# Altium footprint library USB-C-31-M-12.PcbLib: 1 footprints
Each footprint in its own frame and in the unit in brackets; x right, y up, seen from the top. Pads: shape width x height; smd on the part's side, far side on the other; paste and mask are expansions set on the pad; w line width, h text height; cw(c..) or ccw(c..) is an arc to the next point about the centre after c.
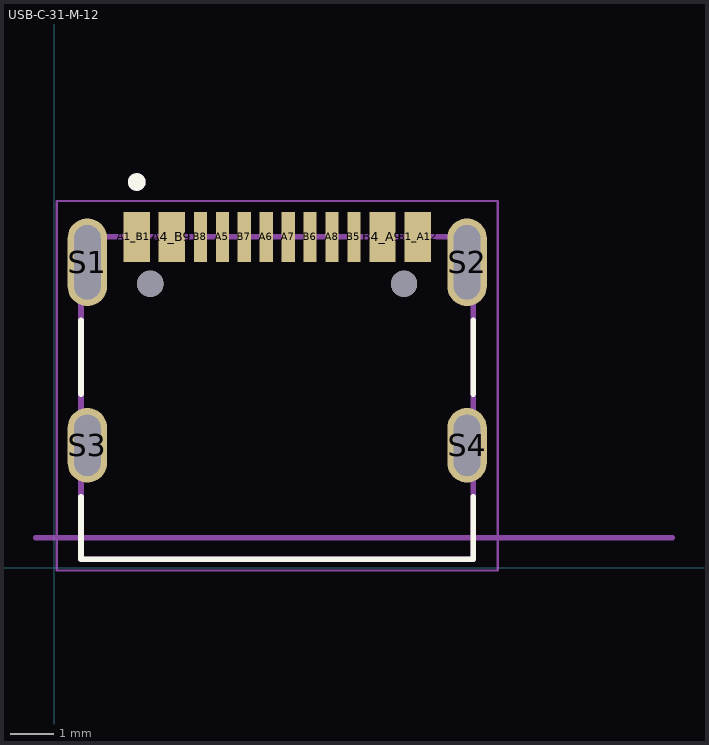
[diagram p0: the footprint, top view; thin cyan lines are the x and y axes]

## USB-C-31-M-12 [mm]
height 3.26
pads (18):
  rect 0.6x1.14 smd mask+0.05: A1_B12(1.88,7.544) A4_B9(2.68,7.544) B1_A12(8.28,7.544) B4_A9(7.48,7.544)
  rect 0.3x1.14 smd mask+0.05: A5(3.83,7.544) A6(4.83,7.544) A7(5.33,7.544) A8(6.33,7.544) B5(6.83,7.544) B6(5.83,7.544) B7(4.33,7.544) B8(3.33,7.544)
  oval 0.9x2 hole 0.6 slot 1.7 at 90 deg: S1(0.755,6.964) S2(9.405,6.964)
  oval 0.9x1.7 hole 0.6 slot 1.4 at 90 deg: S3(0.755,2.794) S4(9.405,2.794)
  round 0.6 hole 0.6 unplated: ""(2.19,6.474) ""(7.97,6.474)
Top Overlay:
  circle w0.2: c1.88,8.794 r0.1
  lines w0.127: 0.61,1.624 0.61,0.194 9.55,0.194 9.55,1.624 ; 0.61,3.964 0.61,5.644 ; 9.55,3.964 9.55,5.644
Mechanical 13:
  circle w0.2: c1.88,8.794 r0.1
  lines w0.127: -0.42,0.684 14.08,0.684 ; 0.61,0.194 0.61,7.544 9.55,7.544 9.55,0.194 0.61,0.194
  text "PCB EDGE" at 5.2,-1.9 h0.61
Mechanical 15:
  lines w0.05: 0.055,-0.056 10.105,-0.056 10.105,8.364 0.055,8.364 0.055,-0.056
3D body "step_temp.STEP": height 3.31, standoff -0.99, extent 0.61,0.194 9.55,8.099